# Altium footprint library 2019-06-07_05-24-26.PcbLib: 1 footprints
Each footprint in its own frame and in the unit in brackets; x right, y up, seen from the top. Pads: shape width x height; smd on the part's side, far side on the other; paste and mask are expansions set on the pad; w line width, h text height; cw(c..) or ccw(c..) is an arc to the next point about the centre after c.
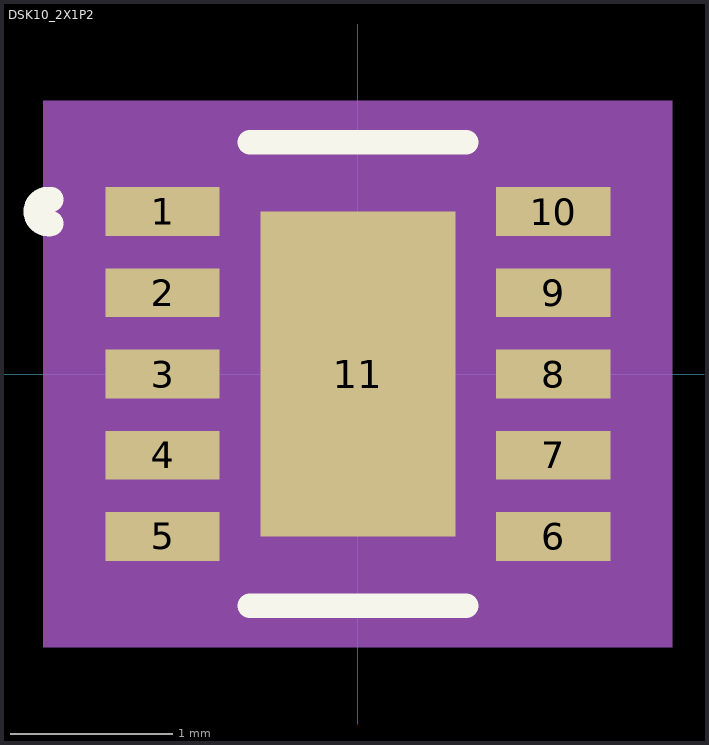
[diagram p0: the footprint, top view; thin cyan lines are the x and y axes]

## DSK10_2X1P2 [mm]
pads (11):
  rect 0.704x0.3 smd paste-0.15 mask+0: 1(-1.202,1) 2(-1.202,0.5) 3(-1.202,0) 4(-1.202,-0.5) 5(-1.202,-1) 6(1.202,-1) 7(1.202,-0.5) 8(1.202,0) 9(1.202,0.5) 10(1.202,1)
  rect 1.2x2 smd paste-0.987 mask-0.991: 11(0,0)
Top Layer:
  region: 0,-1
  region: 0,1
Top Overlay:
  lines w0.152: -1.887,0.926 cw(c-1.906,1) -1.887,1.074 ; -0.666,-1.427 0.666,-1.427 ; -0.666,1.427 0.666,1.427
Top Paste:
  region: 0.525,-0.494 0.241,-0.494 0.1,-0.635 0.1,-0.925 0.525,-0.925
  region: 0.525,0.294 0.241,0.294 0.1,0.152 0.1,-0.152 0.241,-0.294 0.525,-0.294
  region: 0.525,0.925 0.1,0.925 0.1,0.635 0.241,0.494 0.525,0.494
  region: -0.241,-0.494 -0.525,-0.494 -0.525,-0.925 -0.1,-0.925 -0.1,-0.635
  region: -0.241,0.294 -0.525,0.294 -0.525,-0.294 -0.241,-0.294 -0.1,-0.152 -0.1,0.152
  region: -0.1,0.925 -0.525,0.925 -0.525,0.494 -0.241,0.494 -0.1,0.635
Top Solder:
  region: 0,-1
  region: 0,1
  region: 0.2,-1.064 0.2,1.064 0.663,1.064 0.663,-1.064
  region: -0.663,-1.064 -0.663,1.064 -0.2,1.064 -0.2,-1.064
  region: -0.663,-1.064 -0.663,-0.594 0.663,-0.594 0.663,-1.064
  region: -0.663,-0.194 -0.663,0.194 0.663,0.194 0.663,-0.194
  region: -0.663,0.594 -0.663,1.064 0.663,1.064 0.663,0.594
Mechanical 5:
  region: 1.935,-1.681 -1.935,-1.681 -1.935,1.681 1.935,1.681
Mechanical 13:
  circle w0: c-0.85,1 r0.076
  lines w0: -0.305,1.3 ccw(c0,1.3) 0.305,1.3
  lines w0.025: -1.3,-1.3 -1.3,1.3 1.3,1.3 1.3,-1.3 -1.3,-1.3
Mechanical 15:
  region: -1.554,-1.404 -1.808,-1.404 -1.808,1.404 -1.554,1.404 -1.554,1.554 1.554,1.554 1.554,1.404 1.808,1.404 1.808,-1.404 1.554,-1.404 1.554,-1.554 -1.554,-1.554
  lines w0.152: -1.808,-1.404 -1.554,-1.404 -1.554,-1.554 1.554,-1.554 1.554,-1.404 1.808,-1.404 1.808,1.404 1.554,1.404 1.554,1.554 -1.554,1.554 -1.554,1.404 -1.808,1.404 -1.808,-1.404
Mechanical 16:
  circle w0.127: c0,0.394 r0.191
  circle w0.127: c0,-0.394 r0.191
3D body: height 0.25, standoff 0, extent 0,0 0.254,0.254